# EAGLE library part TDA7454 (library Audio-Power-amlifier V.2.0)
The TDA7454 is a new BCD technology QUAD BRIDGE type of car radio amplifier in Flexiwatt25 packagespecially intendedfor car radio applications. Among the features, its superior efficiency performance coming from the internal exclusive structure, makes it the most suitable device to simplify the thermal management in high power sets. The dissipated output power under average listening condition is in fact reduced up to 50% when compared to the level provided by conventional class AB solutions.
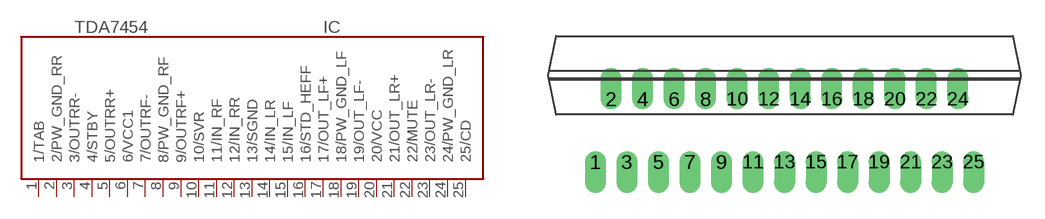
[diagram p215: symbol with the pads of FLEXIWATT25; footprint FLEXIWATT25]

Designator prefix IC

## TDA7454  [FLEXIWATT25]
1  1/TAB  in
2  2/PW_GND_RR  pwr
3  3/OUTRR-  out
4  4/STBY  in
5  5/OUTRR+  out
6  6/VCC1  pwr
7  7/OUTRF-  out
8  8/PW_GND_RF  pwr
9  9/OUTRF+  out
10  10/SVR  in
11  11/IN_RF  in
12  12/IN_RR  in
13  13/SGND  pwr
14  14/IN_LR  in
15  15/IN_LF  in
16  16/STD_HEFF
17  17/OUT_LF+  out
18  18/PW_GND_LF  pwr
19  19/OUT_LF-  out
20  20/VCC  pwr
21  21/OUT_LR+  out
22  22/MUTE  in
23  23/OUT_LR-  out
24  24/PW_GND_LR  pwr
25  25/CD

## Footprint FLEXIWATT25 (pad centres in mm)
Flexiwatt25 (vertical)
drill 0.813 offset: 1 -12,0; 2 -11,4; 3 -10,0; 4 -9,4; 5 -8,0; 6 -7,4; 7 -6,0; 8 -5,4; 9 -4,0; 10 -3,4; 11 -2,0; 12 -1,4; 13 0,0; 14 1,4; 15 2,0; 16 3,4; 17 4,0; 18 5,4; 19 6,0; 20 7,4; 21 8,0; 22 9,4; 23 10,0; 24 11,4; 25 12,0